# Altium schematic symbol library 5-102618-3.SchLib: 2 symbols
Pins are listed as number, name and electrical type; pins without a type are passive.

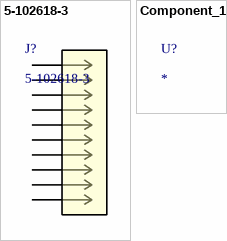
[diagram p0: symbols 5-102618-3 to Component_1]

## 5-102618-3
designator J?
No Description Available; Mfr_Name: TE Connectivity; Type: DEV; Copyright: Copyright (C) 2023 Ultra Librarian. All rights reserved.; Manufacturer_Part_Number: 5-102618-3; RefDes: RefDes
footprint CONN_102618-3_TEC
pins: 1, 2, 3, 4, 5, 6, 7, 8, 9, 10

## Component_1
designator U?
Value: *; HelpURL: *; MPN: *; Supplier: *; SupplierPartNumber: *